# Altium schematic symbol library R-CRCW06036K80JNEA.Schlib: 1 symbol
Pins are listed as number, name and electrical type; pins without a type are passive.

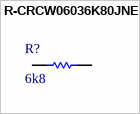
[diagram p0: symbol R-CRCW06036K80JNEA]

## R-CRCW06036K80JNEA
designator R?, comment 6k8
Thick Film Resistors - SMD 1/10watt 6.8Kohms 5%
pins: 1, 2